# Altium integrated library Linear Technology Power Management Power Control.IntLib: 661 symbols (part 35 of 43)
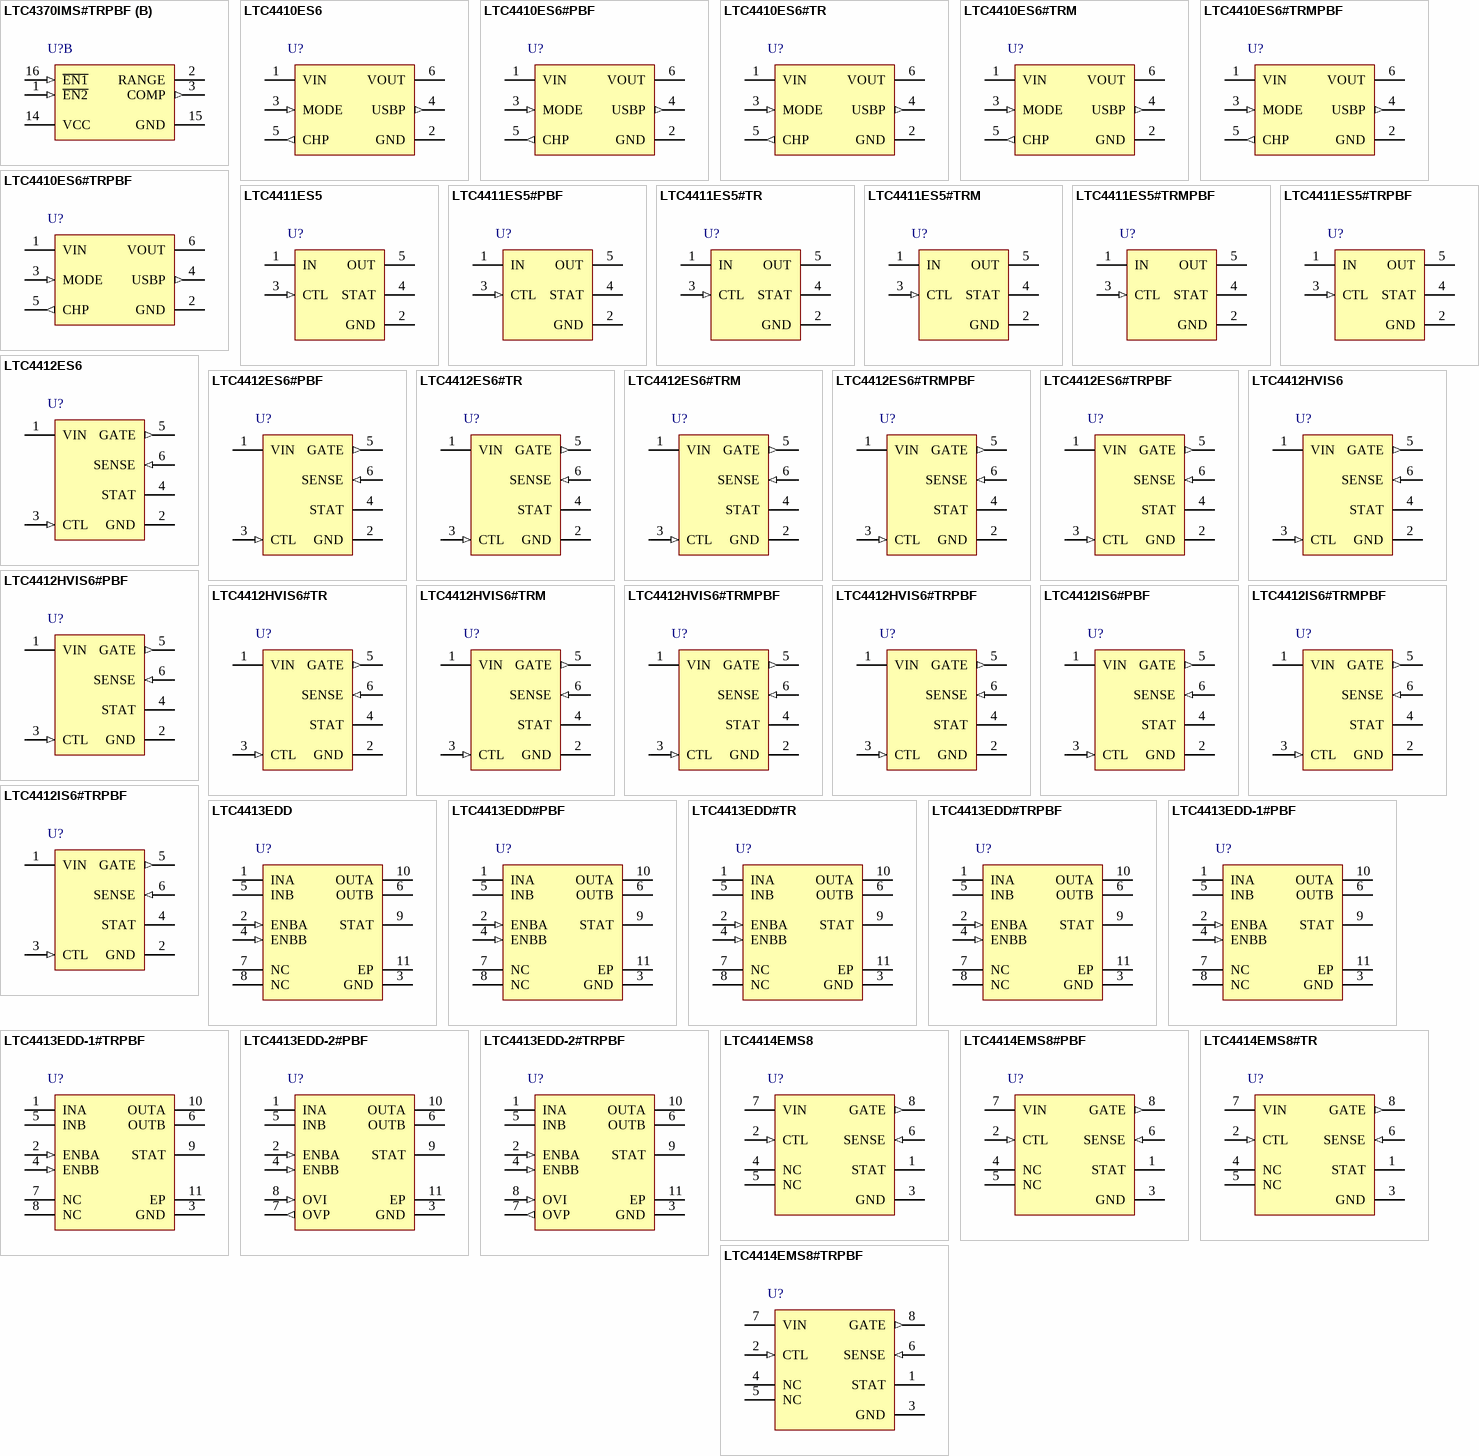
[diagram p53: symbols LTC4370IMS#TRPBF to LTC4414EMS8#TRPBF]

## LTC4412ES6#PBF
designator U?
Low Loss PowerPath(TM) Controller, 2.5 to 28 V Vin, 6-pin SOT23 (S6-6), -40 to 85 degC, Pb-Free; Manufacturer: Linear Technology; PartNumber: LTC4412ES6#PBF; Ideal Diode: Single, External, P-Channel; PackageVersion: Jun-10; PackageReference: S6-6; PackageDescription: 6-Pin Plastic TSOT-23, Body 2.9 x 1.63 mm, Pitch 0.95 mm; Supplier 1: Newark; Supplier Part Number 1: 61M3335; RoHS: TRUE; Mounting Technology: Surface Mount; Code_JEDEC: MO-193; ComponentLink1Description: Manufacturer URL; ComponentLink1URL: http://www.linear.com/; ComponentLink2Description: Datasheet; ComponentLink2URL: http://cds.linear.com/docs/en/datasheet/4412fa.pdf; ComponentLink3Description: Package Specification; ComponentLink3URL: http://cds.linear.com/docs/en/packaging/SOT_6_05-08-1636.pdf
footprint LT-S6-6-TSOT-23_N (SOT23, 6-Leads, Body 2.9x1.75mm, Pitch 0.95mm, IPC Medium Density)
footprint LT-S6-6-TSOT-23_L (SOT23, 6-Leads, Body 2.9x1.75mm, Pitch 0.95mm, IPC High Density)
footprint LT-S6-6-TSOT-23_M (SOT23, 6-Leads, Body 2.9x1.75mm, Pitch 0.95mm, IPC Low Density)
pins: 1 VIN (power) "Primary Input Supply Voltage. Supplies power to the internal circuitry and is one of two voltage sense inputs to the internal analog controller (The other input to the controller is the SENSE pin). This input is usually (See Datasheet)", 2 GND (power) "Ground. Provides a power return for all the internal circuits.", 3 CTL (in) "Digital Control Input. A logical high input (VIH) on this pin forces the gate to source voltage of the primary P-channel MOSFET power switch to a small voltage (VGOFF). This will turn the MOSFET off and no current will flow (See Datasheet)", 4 STAT (oc) "Open-Drain Output Status Pin. When the SENSE pin is pulled above the VIN pin with an auxiliary power source by about 20mV or more, the reverse turn-off threshold (VRTO) is reached. The STAT pin will then go from an open (See Datasheet)", 5 GATE (out) "Primary P-Channel MOSFET Power Switch Gate Drive Pin. This pin is directed by the power controller to maintain a forward regulation voltage (VFR) of 20mV between the VIN and SENSE pins when an auxiliary power source is not (See Datasheet)", 6 SENSE (in) "Power Sense Input Pin. Supplies power to the internal circuitry and is a voltage sense input to the internal analog controller (The other input to the controller is the VIN pin). This input is usually supplied power from an (See Datasheet)"

## LTC4412ES6#TR
designator U?
Low Loss PowerPath(TM) Controller, 2.5 to 28 V Vin, 6-pin SOT23 (S6-6), -40 to 85 degC, Tape and Reel; Manufacturer: Linear Technology; PartNumber: LTC4412ES6#TR; Ideal Diode: Single, External, P-Channel; PackageVersion: Jun-10; PackageReference: S6-6; PackageDescription: 6-Pin Plastic TSOT-23, Body 2.9 x 1.63 mm, Pitch 0.95 mm; Supplier 1: Digi-Key; Supplier Part Number 1: LTC4412ES6TR-ND; Supplier 2: Newark; Supplier Part Number 2: 56M9514; Packing: Tape and Reel; RoHS: FALSE; Mounting Technology: Surface Mount; Code_JEDEC: MO-193; ComponentLink1Description: Manufacturer URL; ComponentLink1URL: http://www.linear.com/; ComponentLink2Description: Datasheet; ComponentLink2URL: http://cds.linear.com/docs/en/datasheet/4412fa.pdf; ComponentLink3Description: Package Specification; ComponentLink3URL: http://cds.linear.com/docs/en/packaging/SOT_6_05-08-1636.pdf
footprint LT-S6-6-TSOT-23_N (SOT23, 6-Leads, Body 2.9x1.75mm, Pitch 0.95mm, IPC Medium Density)
footprint LT-S6-6-TSOT-23_L (SOT23, 6-Leads, Body 2.9x1.75mm, Pitch 0.95mm, IPC High Density)
footprint LT-S6-6-TSOT-23_M (SOT23, 6-Leads, Body 2.9x1.75mm, Pitch 0.95mm, IPC Low Density)
pins: 1 VIN (power) "Primary Input Supply Voltage. Supplies power to the internal circuitry and is one of two voltage sense inputs to the internal analog controller (The other input to the controller is the SENSE pin). This input is usually (See Datasheet)", 2 GND (power) "Ground. Provides a power return for all the internal circuits.", 3 CTL (in) "Digital Control Input. A logical high input (VIH) on this pin forces the gate to source voltage of the primary P-channel MOSFET power switch to a small voltage (VGOFF). This will turn the MOSFET off and no current will flow (See Datasheet)", 4 STAT (oc) "Open-Drain Output Status Pin. When the SENSE pin is pulled above the VIN pin with an auxiliary power source by about 20mV or more, the reverse turn-off threshold (VRTO) is reached. The STAT pin will then go from an open (See Datasheet)", 5 GATE (out) "Primary P-Channel MOSFET Power Switch Gate Drive Pin. This pin is directed by the power controller to maintain a forward regulation voltage (VFR) of 20mV between the VIN and SENSE pins when an auxiliary power source is not (See Datasheet)", 6 SENSE (in) "Power Sense Input Pin. Supplies power to the internal circuitry and is a voltage sense input to the internal analog controller (The other input to the controller is the VIN pin). This input is usually supplied power from an (See Datasheet)"

## LTC4412ES6#TRM
designator U?
Low Loss PowerPath(TM) Controller, 2.5 to 28 V Vin, 6-pin SOT23 (S6-6), -40 to 85 degC, Mini Tape and Reel; Manufacturer: Linear Technology; PartNumber: LTC4412ES6#TRM; Ideal Diode: Single, External, P-Channel; PackageVersion: Jun-10; PackageReference: S6-6; PackageDescription: 6-Pin Plastic TSOT-23, Body 2.9 x 1.63 mm, Pitch 0.95 mm; Supplier 1: Digi-Key; Supplier Part Number 1: LTC4412ES6#TRMTR-ND; Supplier 2: Digi-Key; Supplier Part Number 2: LTC4412ES6#TRMCT-ND; Supplier 3: Digi-Key; Supplier Part Number 3: LTC4412ES6#TRMDKR-ND; Supplier 4: Newark; Supplier Part Number 4: 56M9515; Packing: Mini Tape and Reel; RoHS: FALSE; Mounting Technology: Surface Mount; Code_JEDEC: MO-193; ComponentLink1Description: Manufacturer URL; ComponentLink1URL: http://www.linear.com/; ComponentLink2Description: Datasheet; ComponentLink2URL: http://cds.linear.com/docs/en/datasheet/4412fa.pdf; ComponentLink3Description: Package Specification; ComponentLink3URL: http://cds.linear.com/docs/en/packaging/SOT_6_05-08-1636.pdf
footprint LT-S6-6-TSOT-23_N (SOT23, 6-Leads, Body 2.9x1.75mm, Pitch 0.95mm, IPC Medium Density)
footprint LT-S6-6-TSOT-23_L (SOT23, 6-Leads, Body 2.9x1.75mm, Pitch 0.95mm, IPC High Density)
footprint LT-S6-6-TSOT-23_M (SOT23, 6-Leads, Body 2.9x1.75mm, Pitch 0.95mm, IPC Low Density)
pins: 1 VIN (power) "Primary Input Supply Voltage. Supplies power to the internal circuitry and is one of two voltage sense inputs to the internal analog controller (The other input to the controller is the SENSE pin). This input is usually (See Datasheet)", 2 GND (power) "Ground. Provides a power return for all the internal circuits.", 3 CTL (in) "Digital Control Input. A logical high input (VIH) on this pin forces the gate to source voltage of the primary P-channel MOSFET power switch to a small voltage (VGOFF). This will turn the MOSFET off and no current will flow (See Datasheet)", 4 STAT (oc) "Open-Drain Output Status Pin. When the SENSE pin is pulled above the VIN pin with an auxiliary power source by about 20mV or more, the reverse turn-off threshold (VRTO) is reached. The STAT pin will then go from an open (See Datasheet)", 5 GATE (out) "Primary P-Channel MOSFET Power Switch Gate Drive Pin. This pin is directed by the power controller to maintain a forward regulation voltage (VFR) of 20mV between the VIN and SENSE pins when an auxiliary power source is not (See Datasheet)", 6 SENSE (in) "Power Sense Input Pin. Supplies power to the internal circuitry and is a voltage sense input to the internal analog controller (The other input to the controller is the VIN pin). This input is usually supplied power from an (See Datasheet)"

## LTC4412ES6#TRMPBF
designator U?
Low Loss PowerPath(TM) Controller, 2.5 to 28 V Vin, 6-pin SOT23 (S6-6), -40 to 85 degC, Pb-Free, Mini Tape and Reel; Manufacturer: Linear Technology; PartNumber: LTC4412ES6#TRMPBF; Ideal Diode: Single, External, P-Channel; PackageVersion: Jun-10; PackageReference: S6-6; PackageDescription: 6-Pin Plastic TSOT-23, Body 2.9 x 1.63 mm, Pitch 0.95 mm; Supplier 1: Digi-Key; Supplier Part Number 1: LTC4412ES6#TRMPBFTR-ND; Supplier 2: Digi-Key; Supplier Part Number 2: LTC4412ES6#TRMPBFCT-ND; Supplier 3: Digi-Key; Supplier Part Number 3: LTC4412ES6#TRMPBFDKR-ND; Supplier 4: Farnell; Supplier Part Number 4: 1663917RL; Supplier 5: Farnell; Supplier Part Number 5: 1663917; Supplier 6: Newark; Supplier Part Number 6: 56M9516; Packing: Mini Tape and Reel; RoHS: TRUE; Mounting Technology: Surface Mount; Code_JEDEC: MO-193; ComponentLink1Description: Manufacturer URL; ComponentLink1URL: http://www.linear.com/; ComponentLink2Description: Datasheet; ComponentLink2URL: http://cds.linear.com/docs/en/datasheet/4412fa.pdf; ComponentLink3Description: Package Specification; ComponentLink3URL: http://cds.linear.com/docs/en/packaging/SOT_6_05-08-1636.pdf
footprint LT-S6-6-TSOT-23_N (SOT23, 6-Leads, Body 2.9x1.75mm, Pitch 0.95mm, IPC Medium Density)
footprint LT-S6-6-TSOT-23_L (SOT23, 6-Leads, Body 2.9x1.75mm, Pitch 0.95mm, IPC High Density)
footprint LT-S6-6-TSOT-23_M (SOT23, 6-Leads, Body 2.9x1.75mm, Pitch 0.95mm, IPC Low Density)
pins: 1 VIN (power) "Primary Input Supply Voltage. Supplies power to the internal circuitry and is one of two voltage sense inputs to the internal analog controller (The other input to the controller is the SENSE pin). This input is usually (See Datasheet)", 2 GND (power) "Ground. Provides a power return for all the internal circuits.", 3 CTL (in) "Digital Control Input. A logical high input (VIH) on this pin forces the gate to source voltage of the primary P-channel MOSFET power switch to a small voltage (VGOFF). This will turn the MOSFET off and no current will flow (See Datasheet)", 4 STAT (oc) "Open-Drain Output Status Pin. When the SENSE pin is pulled above the VIN pin with an auxiliary power source by about 20mV or more, the reverse turn-off threshold (VRTO) is reached. The STAT pin will then go from an open (See Datasheet)", 5 GATE (out) "Primary P-Channel MOSFET Power Switch Gate Drive Pin. This pin is directed by the power controller to maintain a forward regulation voltage (VFR) of 20mV between the VIN and SENSE pins when an auxiliary power source is not (See Datasheet)", 6 SENSE (in) "Power Sense Input Pin. Supplies power to the internal circuitry and is a voltage sense input to the internal analog controller (The other input to the controller is the VIN pin). This input is usually supplied power from an (See Datasheet)"

## LTC4412ES6#TRPBF
designator U?
Low Loss PowerPath(TM) Controller, 2.5 to 28 V Vin, 6-pin SOT23 (S6-6), -40 to 85 degC, Pb-Free, Tape and Reel; Manufacturer: Linear Technology; PartNumber: LTC4412ES6#TRPBF; Ideal Diode: Single, External, P-Channel; PackageVersion: Jun-10; PackageReference: S6-6; PackageDescription: 6-Pin Plastic TSOT-23, Body 2.9 x 1.63 mm, Pitch 0.95 mm; Supplier 1: Digi-Key; Supplier Part Number 1: LTC4412ES6#TRPBF-ND; Supplier 2: Newark; Supplier Part Number 2: 56M9517; Packing: Tape and Reel; RoHS: TRUE; Mounting Technology: Surface Mount; Code_JEDEC: MO-193; ComponentLink1Description: Manufacturer URL; ComponentLink1URL: http://www.linear.com/; ComponentLink2Description: Datasheet; ComponentLink2URL: http://cds.linear.com/docs/en/datasheet/4412fa.pdf; ComponentLink3Description: Package Specification; ComponentLink3URL: http://cds.linear.com/docs/en/packaging/SOT_6_05-08-1636.pdf
footprint LT-S6-6-TSOT-23_N (SOT23, 6-Leads, Body 2.9x1.75mm, Pitch 0.95mm, IPC Medium Density)
footprint LT-S6-6-TSOT-23_L (SOT23, 6-Leads, Body 2.9x1.75mm, Pitch 0.95mm, IPC High Density)
footprint LT-S6-6-TSOT-23_M (SOT23, 6-Leads, Body 2.9x1.75mm, Pitch 0.95mm, IPC Low Density)
pins: 1 VIN (power) "Primary Input Supply Voltage. Supplies power to the internal circuitry and is one of two voltage sense inputs to the internal analog controller (The other input to the controller is the SENSE pin). This input is usually (See Datasheet)", 2 GND (power) "Ground. Provides a power return for all the internal circuits.", 3 CTL (in) "Digital Control Input. A logical high input (VIH) on this pin forces the gate to source voltage of the primary P-channel MOSFET power switch to a small voltage (VGOFF). This will turn the MOSFET off and no current will flow (See Datasheet)", 4 STAT (oc) "Open-Drain Output Status Pin. When the SENSE pin is pulled above the VIN pin with an auxiliary power source by about 20mV or more, the reverse turn-off threshold (VRTO) is reached. The STAT pin will then go from an open (See Datasheet)", 5 GATE (out) "Primary P-Channel MOSFET Power Switch Gate Drive Pin. This pin is directed by the power controller to maintain a forward regulation voltage (VFR) of 20mV between the VIN and SENSE pins when an auxiliary power source is not (See Datasheet)", 6 SENSE (in) "Power Sense Input Pin. Supplies power to the internal circuitry and is a voltage sense input to the internal analog controller (The other input to the controller is the VIN pin). This input is usually supplied power from an (See Datasheet)"

## LTC4412HVIS6
designator U?
Low Loss PowerPath(TM) Controller, 2.5 to 36 V Vin, 6-pin SOT23 (S6-6), -40 to 125 degC; Manufacturer: Linear Technology; PartNumber: LTC4412HVIS6; Ideal Diode: Single, External, P-Channel; PackageVersion: Jun-10; PackageReference: S6-6; PackageDescription: 6-Pin Plastic TSOT-23, Body 2.9 x 1.63 mm, Pitch 0.95 mm; RoHS: FALSE; Mounting Technology: Surface Mount; Code_JEDEC: MO-193; ComponentLink1Description: Manufacturer URL; ComponentLink1URL: http://www.linear.com/; ComponentLink2Description: Datasheet; ComponentLink2URL: http://cds.linear.com/docs/en/datasheet/4412hvfs.pdf; ComponentLink3Description: Package Specification; ComponentLink3URL: http://cds.linear.com/docs/en/packaging/SOT_6_05-08-1636.pdf
footprint LT-S6-6-TSOT-23_N (SOT23, 6-Leads, Body 2.9x1.75mm, Pitch 0.95mm, IPC Medium Density)
footprint LT-S6-6-TSOT-23_L (SOT23, 6-Leads, Body 2.9x1.75mm, Pitch 0.95mm, IPC High Density)
footprint LT-S6-6-TSOT-23_M (SOT23, 6-Leads, Body 2.9x1.75mm, Pitch 0.95mm, IPC Low Density)
pins: 1 VIN (power) "Primary Input Supply Voltage. Supplies power to the internal circuitry and is one of two voltage sense inputs to the internal analog controller (The other input to the controller is the SENSE pin). This input is usually (See Datasheet)", 2 GND (power) "Ground. Provides a power return for all the internal circuits.", 3 CTL (in) "Digital Control Input. A logical high input (VIH) on this pin forces the gate to source voltage of the primary P-channel MOSFET power switch to a small voltage (VGOFF). This will turn the MOSFET off and no current will flow (See Datasheet)", 4 STAT (oc) "Open-Drain Output Status Pin. When the SENSE pin is pulled above the VIN pin with an auxiliary power source by about 20mV or more, the reverse turn-off threshold (VRTO) is reached. The STAT pin will then go from an open (See Datasheet)", 5 GATE (out) "Primary P-Channel MOSFET Power Switch Gate Drive Pin. This pin is directed by the power controller to maintain a forward regulation voltage (VFR) of 20mV between the VIN and SENSE pins when an auxiliary power source is not (See Datasheet)", 6 SENSE (in) "Power Sense Input Pin. Supplies power to the internal circuitry and is a voltage sense input to the internal analog controller (The other input to the controller is the VIN pin). This input is usually supplied power from an (See Datasheet)"

## LTC4412HVIS6#PBF
designator U?
Low Loss PowerPath(TM) Controller, 2.5 to 36 V Vin, 6-pin SOT23 (S6-6), -40 to 125 degC, Pb-Free; Manufacturer: Linear Technology; PartNumber: LTC4412HVIS6#PBF; Ideal Diode: Single, External, P-Channel; PackageVersion: Jun-10; PackageReference: S6-6; PackageDescription: 6-Pin Plastic TSOT-23, Body 2.9 x 1.63 mm, Pitch 0.95 mm; Supplier 1: Farnell; Supplier Part Number 1: 2295297; Supplier 2: Newark; Supplier Part Number 2: 60R3298; RoHS: TRUE; Mounting Technology: Surface Mount; Code_JEDEC: MO-193; ComponentLink1Description: Manufacturer URL; ComponentLink1URL: http://www.linear.com/; ComponentLink2Description: Datasheet; ComponentLink2URL: http://cds.linear.com/docs/en/datasheet/4412hvfs.pdf; ComponentLink3Description: Package Specification; ComponentLink3URL: http://cds.linear.com/docs/en/packaging/SOT_6_05-08-1636.pdf
footprint LT-S6-6-TSOT-23_N (SOT23, 6-Leads, Body 2.9x1.75mm, Pitch 0.95mm, IPC Medium Density)
footprint LT-S6-6-TSOT-23_L (SOT23, 6-Leads, Body 2.9x1.75mm, Pitch 0.95mm, IPC High Density)
footprint LT-S6-6-TSOT-23_M (SOT23, 6-Leads, Body 2.9x1.75mm, Pitch 0.95mm, IPC Low Density)
pins: 1 VIN (power) "Primary Input Supply Voltage. Supplies power to the internal circuitry and is one of two voltage sense inputs to the internal analog controller (The other input to the controller is the SENSE pin). This input is usually (See Datasheet)", 2 GND (power) "Ground. Provides a power return for all the internal circuits.", 3 CTL (in) "Digital Control Input. A logical high input (VIH) on this pin forces the gate to source voltage of the primary P-channel MOSFET power switch to a small voltage (VGOFF). This will turn the MOSFET off and no current will flow (See Datasheet)", 4 STAT (oc) "Open-Drain Output Status Pin. When the SENSE pin is pulled above the VIN pin with an auxiliary power source by about 20mV or more, the reverse turn-off threshold (VRTO) is reached. The STAT pin will then go from an open (See Datasheet)", 5 GATE (out) "Primary P-Channel MOSFET Power Switch Gate Drive Pin. This pin is directed by the power controller to maintain a forward regulation voltage (VFR) of 20mV between the VIN and SENSE pins when an auxiliary power source is not (See Datasheet)", 6 SENSE (in) "Power Sense Input Pin. Supplies power to the internal circuitry and is a voltage sense input to the internal analog controller (The other input to the controller is the VIN pin). This input is usually supplied power from an (See Datasheet)"

## LTC4412HVIS6#TR
designator U?
Low Loss PowerPath(TM) Controller, 2.5 to 36 V Vin, 6-pin SOT23 (S6-6), -40 to 125 degC, Tape and Reel; Manufacturer: Linear Technology; PartNumber: LTC4412HVIS6#TR; Ideal Diode: Single, External, P-Channel; PackageVersion: Jun-10; PackageReference: S6-6; PackageDescription: 6-Pin Plastic TSOT-23, Body 2.9 x 1.63 mm, Pitch 0.95 mm; Supplier 1: Digi-Key; Supplier Part Number 1: LTC4412HVIS6#TR-ND; Supplier 2: Newark; Supplier Part Number 2: 56M9518; Packing: Tape and Reel; RoHS: FALSE; Mounting Technology: Surface Mount; Code_JEDEC: MO-193; ComponentLink1Description: Manufacturer URL; ComponentLink1URL: http://www.linear.com/; ComponentLink2Description: Datasheet; ComponentLink2URL: http://cds.linear.com/docs/en/datasheet/4412hvfs.pdf; ComponentLink3Description: Package Specification; ComponentLink3URL: http://cds.linear.com/docs/en/packaging/SOT_6_05-08-1636.pdf
footprint LT-S6-6-TSOT-23_N (SOT23, 6-Leads, Body 2.9x1.75mm, Pitch 0.95mm, IPC Medium Density)
footprint LT-S6-6-TSOT-23_L (SOT23, 6-Leads, Body 2.9x1.75mm, Pitch 0.95mm, IPC High Density)
footprint LT-S6-6-TSOT-23_M (SOT23, 6-Leads, Body 2.9x1.75mm, Pitch 0.95mm, IPC Low Density)
pins: 1 VIN (power) "Primary Input Supply Voltage. Supplies power to the internal circuitry and is one of two voltage sense inputs to the internal analog controller (The other input to the controller is the SENSE pin). This input is usually (See Datasheet)", 2 GND (power) "Ground. Provides a power return for all the internal circuits.", 3 CTL (in) "Digital Control Input. A logical high input (VIH) on this pin forces the gate to source voltage of the primary P-channel MOSFET power switch to a small voltage (VGOFF). This will turn the MOSFET off and no current will flow (See Datasheet)", 4 STAT (oc) "Open-Drain Output Status Pin. When the SENSE pin is pulled above the VIN pin with an auxiliary power source by about 20mV or more, the reverse turn-off threshold (VRTO) is reached. The STAT pin will then go from an open (See Datasheet)", 5 GATE (out) "Primary P-Channel MOSFET Power Switch Gate Drive Pin. This pin is directed by the power controller to maintain a forward regulation voltage (VFR) of 20mV between the VIN and SENSE pins when an auxiliary power source is not (See Datasheet)", 6 SENSE (in) "Power Sense Input Pin. Supplies power to the internal circuitry and is a voltage sense input to the internal analog controller (The other input to the controller is the VIN pin). This input is usually supplied power from an (See Datasheet)"

## LTC4412HVIS6#TRM
designator U?
Low Loss PowerPath(TM) Controller, 2.5 to 36 V Vin, 6-pin SOT23 (S6-6), -40 to 125 degC, Mini Tape and Reel; Manufacturer: Linear Technology; PartNumber: LTC4412HVIS6#TRM; Ideal Diode: Single, External, P-Channel; PackageVersion: Jun-10; PackageReference: S6-6; PackageDescription: 6-Pin Plastic TSOT-23, Body 2.9 x 1.63 mm, Pitch 0.95 mm; Supplier 1: Digi-Key; Supplier Part Number 1: LTC4412HVIS6#TRM-ND; Supplier 2: Newark; Supplier Part Number 2: 56M9519; Packing: Mini Tape and Reel; RoHS: FALSE; Mounting Technology: Surface Mount; Code_JEDEC: MO-193; ComponentLink1Description: Manufacturer URL; ComponentLink1URL: http://www.linear.com/; ComponentLink2Description: Datasheet; ComponentLink2URL: http://cds.linear.com/docs/en/datasheet/4412hvfs.pdf; ComponentLink3Description: Package Specification; ComponentLink3URL: http://cds.linear.com/docs/en/packaging/SOT_6_05-08-1636.pdf
footprint LT-S6-6-TSOT-23_N (SOT23, 6-Leads, Body 2.9x1.75mm, Pitch 0.95mm, IPC Medium Density)
footprint LT-S6-6-TSOT-23_L (SOT23, 6-Leads, Body 2.9x1.75mm, Pitch 0.95mm, IPC High Density)
footprint LT-S6-6-TSOT-23_M (SOT23, 6-Leads, Body 2.9x1.75mm, Pitch 0.95mm, IPC Low Density)
pins: 1 VIN (power) "Primary Input Supply Voltage. Supplies power to the internal circuitry and is one of two voltage sense inputs to the internal analog controller (The other input to the controller is the SENSE pin). This input is usually (See Datasheet)", 2 GND (power) "Ground. Provides a power return for all the internal circuits.", 3 CTL (in) "Digital Control Input. A logical high input (VIH) on this pin forces the gate to source voltage of the primary P-channel MOSFET power switch to a small voltage (VGOFF). This will turn the MOSFET off and no current will flow (See Datasheet)", 4 STAT (oc) "Open-Drain Output Status Pin. When the SENSE pin is pulled above the VIN pin with an auxiliary power source by about 20mV or more, the reverse turn-off threshold (VRTO) is reached. The STAT pin will then go from an open (See Datasheet)", 5 GATE (out) "Primary P-Channel MOSFET Power Switch Gate Drive Pin. This pin is directed by the power controller to maintain a forward regulation voltage (VFR) of 20mV between the VIN and SENSE pins when an auxiliary power source is not (See Datasheet)", 6 SENSE (in) "Power Sense Input Pin. Supplies power to the internal circuitry and is a voltage sense input to the internal analog controller (The other input to the controller is the VIN pin). This input is usually supplied power from an (See Datasheet)"

## LTC4412HVIS6#TRMPBF
designator U?
Low Loss PowerPath(TM) Controller, 2.5 to 36 V Vin, 6-pin SOT23 (S6-6), -40 to 125 degC, Pb-Free, Mini Tape and Reel; Manufacturer: Linear Technology; PartNumber: LTC4412HVIS6#TRMPBF; Ideal Diode: Single, External, P-Channel; PackageVersion: Jun-10; PackageReference: S6-6; PackageDescription: 6-Pin Plastic TSOT-23, Body 2.9 x 1.63 mm, Pitch 0.95 mm; Supplier 1: Digi-Key; Supplier Part Number 1: LTC4412HVIS6#TRMPBFTR-ND; Supplier 2: Digi-Key; Supplier Part Number 2: LTC4412HVIS6#TRMPBFCT-ND; Supplier 3: Digi-Key; Supplier Part Number 3: LTC4412HVIS6#TRMPBFDKR-ND; Supplier 4: Newark; Supplier Part Number 4: 56M9520; Packing: Mini Tape and Reel; RoHS: TRUE; Mounting Technology: Surface Mount; Code_JEDEC: MO-193; ComponentLink1Description: Manufacturer URL; ComponentLink1URL: http://www.linear.com/; ComponentLink2Description: Datasheet; ComponentLink2URL: http://cds.linear.com/docs/en/datasheet/4412hvfs.pdf; ComponentLink3Description: Package Specification; ComponentLink3URL: http://cds.linear.com/docs/en/packaging/SOT_6_05-08-1636.pdf
footprint LT-S6-6-TSOT-23_N (SOT23, 6-Leads, Body 2.9x1.75mm, Pitch 0.95mm, IPC Medium Density)
footprint LT-S6-6-TSOT-23_L (SOT23, 6-Leads, Body 2.9x1.75mm, Pitch 0.95mm, IPC High Density)
footprint LT-S6-6-TSOT-23_M (SOT23, 6-Leads, Body 2.9x1.75mm, Pitch 0.95mm, IPC Low Density)
pins: 1 VIN (power) "Primary Input Supply Voltage. Supplies power to the internal circuitry and is one of two voltage sense inputs to the internal analog controller (The other input to the controller is the SENSE pin). This input is usually (See Datasheet)", 2 GND (power) "Ground. Provides a power return for all the internal circuits.", 3 CTL (in) "Digital Control Input. A logical high input (VIH) on this pin forces the gate to source voltage of the primary P-channel MOSFET power switch to a small voltage (VGOFF). This will turn the MOSFET off and no current will flow (See Datasheet)", 4 STAT (oc) "Open-Drain Output Status Pin. When the SENSE pin is pulled above the VIN pin with an auxiliary power source by about 20mV or more, the reverse turn-off threshold (VRTO) is reached. The STAT pin will then go from an open (See Datasheet)", 5 GATE (out) "Primary P-Channel MOSFET Power Switch Gate Drive Pin. This pin is directed by the power controller to maintain a forward regulation voltage (VFR) of 20mV between the VIN and SENSE pins when an auxiliary power source is not (See Datasheet)", 6 SENSE (in) "Power Sense Input Pin. Supplies power to the internal circuitry and is a voltage sense input to the internal analog controller (The other input to the controller is the VIN pin). This input is usually supplied power from an (See Datasheet)"

## LTC4412HVIS6#TRPBF
designator U?
Low Loss PowerPath(TM) Controller, 2.5 to 36 V Vin, 6-pin SOT23 (S6-6), -40 to 125 degC, Pb-Free, Tape and Reel; Manufacturer: Linear Technology; PartNumber: LTC4412HVIS6#TRPBF; Ideal Diode: Single, External, P-Channel; PackageVersion: Jun-10; PackageReference: S6-6; PackageDescription: 6-Pin Plastic TSOT-23, Body 2.9 x 1.63 mm, Pitch 0.95 mm; Supplier 1: Digi-Key; Supplier Part Number 1: LTC4412HVIS6#TRPBF-ND; Supplier 2: Newark; Supplier Part Number 2: 56M9521; Packing: Tape and Reel; RoHS: TRUE; Mounting Technology: Surface Mount; Code_JEDEC: MO-193; ComponentLink1Description: Manufacturer URL; ComponentLink1URL: http://www.linear.com/; ComponentLink2Description: Datasheet; ComponentLink2URL: http://cds.linear.com/docs/en/datasheet/4412hvfs.pdf; ComponentLink3Description: Package Specification; ComponentLink3URL: http://cds.linear.com/docs/en/packaging/SOT_6_05-08-1636.pdf
footprint LT-S6-6-TSOT-23_N (SOT23, 6-Leads, Body 2.9x1.75mm, Pitch 0.95mm, IPC Medium Density)
footprint LT-S6-6-TSOT-23_L (SOT23, 6-Leads, Body 2.9x1.75mm, Pitch 0.95mm, IPC High Density)
footprint LT-S6-6-TSOT-23_M (SOT23, 6-Leads, Body 2.9x1.75mm, Pitch 0.95mm, IPC Low Density)
pins: 1 VIN (power) "Primary Input Supply Voltage. Supplies power to the internal circuitry and is one of two voltage sense inputs to the internal analog controller (The other input to the controller is the SENSE pin). This input is usually (See Datasheet)", 2 GND (power) "Ground. Provides a power return for all the internal circuits.", 3 CTL (in) "Digital Control Input. A logical high input (VIH) on this pin forces the gate to source voltage of the primary P-channel MOSFET power switch to a small voltage (VGOFF). This will turn the MOSFET off and no current will flow (See Datasheet)", 4 STAT (oc) "Open-Drain Output Status Pin. When the SENSE pin is pulled above the VIN pin with an auxiliary power source by about 20mV or more, the reverse turn-off threshold (VRTO) is reached. The STAT pin will then go from an open (See Datasheet)", 5 GATE (out) "Primary P-Channel MOSFET Power Switch Gate Drive Pin. This pin is directed by the power controller to maintain a forward regulation voltage (VFR) of 20mV between the VIN and SENSE pins when an auxiliary power source is not (See Datasheet)", 6 SENSE (in) "Power Sense Input Pin. Supplies power to the internal circuitry and is a voltage sense input to the internal analog controller (The other input to the controller is the VIN pin). This input is usually supplied power from an (See Datasheet)"

## LTC4412IS6#PBF
designator U?
Low Loss PowerPath(TM) Controller, 2.5 to 28 V Vin, 6-pin SOT23 (S6-6), -40 to 85 degC, Pb-Free; Manufacturer: Linear Technology; PartNumber: LTC4412IS6#PBF; Ideal Diode: Single, External, P-Channel; PackageVersion: Jun-10; PackageReference: S6-6; PackageDescription: 6-Pin Plastic TSOT-23, Body 2.9 x 1.63 mm, Pitch 0.95 mm; Supplier 1: Farnell; Supplier Part Number 1: 1858719; Supplier 2: Newark; Supplier Part Number 2: 69R7373; RoHS: TRUE; Mounting Technology: Surface Mount; Code_JEDEC: MO-193; ComponentLink1Description: Manufacturer URL; ComponentLink1URL: http://www.linear.com/; ComponentLink2Description: Datasheet; ComponentLink2URL: http://cds.linear.com/docs/en/datasheet/4412fa.pdf; ComponentLink3Description: Package Specification; ComponentLink3URL: http://cds.linear.com/docs/en/packaging/SOT_6_05-08-1636.pdf
footprint LT-S6-6-TSOT-23_N (SOT23, 6-Leads, Body 2.9x1.75mm, Pitch 0.95mm, IPC Medium Density)
footprint LT-S6-6-TSOT-23_L (SOT23, 6-Leads, Body 2.9x1.75mm, Pitch 0.95mm, IPC High Density)
footprint LT-S6-6-TSOT-23_M (SOT23, 6-Leads, Body 2.9x1.75mm, Pitch 0.95mm, IPC Low Density)
pins: 1 VIN (power) "Primary Input Supply Voltage. Supplies power to the internal circuitry and is one of two voltage sense inputs to the internal analog controller (The other input to the controller is the SENSE pin). This input is usually (See Datasheet)", 2 GND (power) "Ground. Provides a power return for all the internal circuits.", 3 CTL (in) "Digital Control Input. A logical high input (VIH) on this pin forces the gate to source voltage of the primary P-channel MOSFET power switch to a small voltage (VGOFF). This will turn the MOSFET off and no current will flow (See Datasheet)", 4 STAT (oc) "Open-Drain Output Status Pin. When the SENSE pin is pulled above the VIN pin with an auxiliary power source by about 20mV or more, the reverse turn-off threshold (VRTO) is reached. The STAT pin will then go from an open (See Datasheet)", 5 GATE (out) "Primary P-Channel MOSFET Power Switch Gate Drive Pin. This pin is directed by the power controller to maintain a forward regulation voltage (VFR) of 20mV between the VIN and SENSE pins when an auxiliary power source is not (See Datasheet)", 6 SENSE (in) "Power Sense Input Pin. Supplies power to the internal circuitry and is a voltage sense input to the internal analog controller (The other input to the controller is the VIN pin). This input is usually supplied power from an (See Datasheet)"

## LTC4412IS6#TRMPBF
designator U?
Low Loss PowerPath(TM) Controller, 2.5 to 28 V Vin, 6-pin SOT23 (S6-6), -40 to 85 degC, Pb-Free, Mini Tape and Reel; Manufacturer: Linear Technology; PartNumber: LTC4412IS6#TRMPBF; Ideal Diode: Single, External, P-Channel; PackageVersion: Jun-10; PackageReference: S6-6; PackageDescription: 6-Pin Plastic TSOT-23, Body 2.9 x 1.63 mm, Pitch 0.95 mm; Supplier 1: Digi-Key; Supplier Part Number 1: LTC4412IS6#TRMPBFTR-ND; Supplier 2: Digi-Key; Supplier Part Number 2: LTC4412IS6#TRMPBFCT-ND; Supplier 3: Digi-Key; Supplier Part Number 3: LTC4412IS6#TRMPBFDKR-ND; Supplier 4: Farnell; Supplier Part Number 4: 1663918; Supplier 5: Farnell; Supplier Part Number 5: 1663918RL; Supplier 6: Newark; Supplier Part Number 6: 56M9522; Packing: Mini Tape and Reel; RoHS: TRUE; Mounting Technology: Surface Mount; Code_JEDEC: MO-193; ComponentLink1Description: Manufacturer URL; ComponentLink1URL: http://www.linear.com/; ComponentLink2Description: Datasheet; ComponentLink2URL: http://cds.linear.com/docs/en/datasheet/4412fa.pdf; ComponentLink3Description: Package Specification; ComponentLink3URL: http://cds.linear.com/docs/en/packaging/SOT_6_05-08-1636.pdf
footprint LT-S6-6-TSOT-23_N (SOT23, 6-Leads, Body 2.9x1.75mm, Pitch 0.95mm, IPC Medium Density)
footprint LT-S6-6-TSOT-23_L (SOT23, 6-Leads, Body 2.9x1.75mm, Pitch 0.95mm, IPC High Density)
footprint LT-S6-6-TSOT-23_M (SOT23, 6-Leads, Body 2.9x1.75mm, Pitch 0.95mm, IPC Low Density)
pins: 1 VIN (power) "Primary Input Supply Voltage. Supplies power to the internal circuitry and is one of two voltage sense inputs to the internal analog controller (The other input to the controller is the SENSE pin). This input is usually (See Datasheet)", 2 GND (power) "Ground. Provides a power return for all the internal circuits.", 3 CTL (in) "Digital Control Input. A logical high input (VIH) on this pin forces the gate to source voltage of the primary P-channel MOSFET power switch to a small voltage (VGOFF). This will turn the MOSFET off and no current will flow (See Datasheet)", 4 STAT (oc) "Open-Drain Output Status Pin. When the SENSE pin is pulled above the VIN pin with an auxiliary power source by about 20mV or more, the reverse turn-off threshold (VRTO) is reached. The STAT pin will then go from an open (See Datasheet)", 5 GATE (out) "Primary P-Channel MOSFET Power Switch Gate Drive Pin. This pin is directed by the power controller to maintain a forward regulation voltage (VFR) of 20mV between the VIN and SENSE pins when an auxiliary power source is not (See Datasheet)", 6 SENSE (in) "Power Sense Input Pin. Supplies power to the internal circuitry and is a voltage sense input to the internal analog controller (The other input to the controller is the VIN pin). This input is usually supplied power from an (See Datasheet)"

## LTC4412IS6#TRPBF
designator U?
Low Loss PowerPath(TM) Controller, 2.5 to 28 V Vin, 6-pin SOT23 (S6-6), -40 to 85 degC, Pb-Free, Tape and Reel; Manufacturer: Linear Technology; PartNumber: LTC4412IS6#TRPBF; Ideal Diode: Single, External, P-Channel; PackageVersion: Jun-10; PackageReference: S6-6; PackageDescription: 6-Pin Plastic TSOT-23, Body 2.9 x 1.63 mm, Pitch 0.95 mm; Supplier 1: Digi-Key; Supplier Part Number 1: LTC4412IS6#TRPBF-ND; Supplier 2: Newark; Supplier Part Number 2: 56M9523; Packing: Tape and Reel; RoHS: TRUE; Mounting Technology: Surface Mount; Code_JEDEC: MO-193; ComponentLink1Description: Manufacturer URL; ComponentLink1URL: http://www.linear.com/; ComponentLink2Description: Datasheet; ComponentLink2URL: http://cds.linear.com/docs/en/datasheet/4412fa.pdf; ComponentLink3Description: Package Specification; ComponentLink3URL: http://cds.linear.com/docs/en/packaging/SOT_6_05-08-1636.pdf
footprint LT-S6-6-TSOT-23_N (SOT23, 6-Leads, Body 2.9x1.75mm, Pitch 0.95mm, IPC Medium Density)
footprint LT-S6-6-TSOT-23_L (SOT23, 6-Leads, Body 2.9x1.75mm, Pitch 0.95mm, IPC High Density)
footprint LT-S6-6-TSOT-23_M (SOT23, 6-Leads, Body 2.9x1.75mm, Pitch 0.95mm, IPC Low Density)
pins: 1 VIN (power) "Primary Input Supply Voltage. Supplies power to the internal circuitry and is one of two voltage sense inputs to the internal analog controller (The other input to the controller is the SENSE pin). This input is usually (See Datasheet)", 2 GND (power) "Ground. Provides a power return for all the internal circuits.", 3 CTL (in) "Digital Control Input. A logical high input (VIH) on this pin forces the gate to source voltage of the primary P-channel MOSFET power switch to a small voltage (VGOFF). This will turn the MOSFET off and no current will flow (See Datasheet)", 4 STAT (oc) "Open-Drain Output Status Pin. When the SENSE pin is pulled above the VIN pin with an auxiliary power source by about 20mV or more, the reverse turn-off threshold (VRTO) is reached. The STAT pin will then go from an open (See Datasheet)", 5 GATE (out) "Primary P-Channel MOSFET Power Switch Gate Drive Pin. This pin is directed by the power controller to maintain a forward regulation voltage (VFR) of 20mV between the VIN and SENSE pins when an auxiliary power source is not (See Datasheet)", 6 SENSE (in) "Power Sense Input Pin. Supplies power to the internal circuitry and is a voltage sense input to the internal analog controller (The other input to the controller is the VIN pin). This input is usually supplied power from an (See Datasheet)"

## LTC4413EDD
designator U?
Dual 2.6 A, Ideal Diode, 2.5 to 5.5 V Vin, 10-pin SON (DD-10), -40 to 85 degC; Manufacturer: Linear Technology; PartNumber: LTC4413EDD; Ideal Diode: Dual, Internal, P-Channel; DatasheetVersion: Rev. C; PackageVersion: Rev. C, 06/2010; PackageReference: DD-10; PackageDescription: 10-Pin Plastic DFN, Body 3 x 3 mm, Pitch 0.5 mm; Supplier 1: Newark; Supplier Part Number 1: 56M9524; RoHS: FALSE; Mounting Technology: Surface Mount; Code_JEDEC: MO-229; ComponentLink1Description: Manufacturer URL; ComponentLink1URL: http://www.linear.com/; ComponentLink2Description: Datasheet; ComponentLink2URL: http://cds.linear.com/docs/en/datasheet/4413fc.pdf; ComponentLink3Description: Package Specification; ComponentLink3URL: http://cds.linear.com/docs/en/packaging/DFN_10_05-08-1699.pdf
footprint LT-DD-10_V (SON, 10-Leads, Body 3x3mm, Pitch 0.5mm, Thermal Pad 2.38x1.65mm)
pins: 1 INA (power), 2 ENBA (in), 3 GND (power), 4 ENBB (in), 5 INB (power), 6 OUTB (power), 7 NC "No Connection.", 8 NC "No Connection.", 9 STAT (oc), 10 OUTA (power), 11 EP (power)

## LTC4413EDD#PBF
designator U?
Dual 2.6 A, Ideal Diode, 2.5 to 5.5 V Vin, 10-pin SON (DD-10), -40 to 85 degC, Pb-Free; Manufacturer: Linear Technology; PartNumber: LTC4413EDD#PBF; Ideal Diode: Dual, Internal, P-Channel; DatasheetVersion: Rev. C; PackageVersion: Rev. C, 06/2010; PackageReference: DD-10; PackageDescription: 10-Pin Plastic DFN, Body 3 x 3 mm, Pitch 0.5 mm; Supplier 1: Digi-Key; Supplier Part Number 1: LTC4413EDD#PBF-ND; Supplier 2: Farnell; Supplier Part Number 2: 1663736; Supplier 3: Newark; Supplier Part Number 3: 56M9529; RoHS: TRUE; Mounting Technology: Surface Mount; Code_JEDEC: MO-229; ComponentLink1Description: Manufacturer URL; ComponentLink1URL: http://www.linear.com/; ComponentLink2Description: Datasheet; ComponentLink2URL: http://cds.linear.com/docs/en/datasheet/4413fc.pdf; ComponentLink3Description: Package Specification; ComponentLink3URL: http://cds.linear.com/docs/en/packaging/DFN_10_05-08-1699.pdf
footprint LT-DD-10_V (SON, 10-Leads, Body 3x3mm, Pitch 0.5mm, Thermal Pad 2.38x1.65mm)
pins: 1 INA (power), 2 ENBA (in), 3 GND (power), 4 ENBB (in), 5 INB (power), 6 OUTB (power), 7 NC "No Connection.", 8 NC "No Connection.", 9 STAT (oc), 10 OUTA (power), 11 EP (power)

## LTC4413EDD#TR
designator U?
Dual 2.6 A, Ideal Diode, 2.5 to 5.5 V Vin, 10-pin SON (DD-10), -40 to 85 degC, Tape and Reel; Manufacturer: Linear Technology; PartNumber: LTC4413EDD#TR; Ideal Diode: Dual, Internal, P-Channel; DatasheetVersion: Rev. C; PackageVersion: Rev. C, 06/2010; PackageReference: DD-10; PackageDescription: 10-Pin Plastic DFN, Body 3 x 3 mm, Pitch 0.5 mm; Supplier 1: Newark; Supplier Part Number 1: 56M9530; Packing: Tape and Reel; RoHS: FALSE; Mounting Technology: Surface Mount; Code_JEDEC: MO-229; ComponentLink1Description: Manufacturer URL; ComponentLink1URL: http://www.linear.com/; ComponentLink2Description: Datasheet; ComponentLink2URL: http://cds.linear.com/docs/en/datasheet/4413fc.pdf; ComponentLink3Description: Package Specification; ComponentLink3URL: http://cds.linear.com/docs/en/packaging/DFN_10_05-08-1699.pdf
footprint LT-DD-10_V (SON, 10-Leads, Body 3x3mm, Pitch 0.5mm, Thermal Pad 2.38x1.65mm)
pins: 1 INA (power), 2 ENBA (in), 3 GND (power), 4 ENBB (in), 5 INB (power), 6 OUTB (power), 7 NC "No Connection.", 8 NC "No Connection.", 9 STAT (oc), 10 OUTA (power), 11 EP (power)

## LTC4413EDD#TRPBF
designator U?
Dual 2.6 A, Ideal Diode, 2.5 to 5.5 V Vin, 10-pin SON (DD-10), -40 to 85 degC, Pb-Free, Tape and Reel; Manufacturer: Linear Technology; PartNumber: LTC4413EDD#TRPBF; Ideal Diode: Dual, Internal, P-Channel; DatasheetVersion: Rev. C; PackageVersion: Rev. C, 06/2010; PackageReference: DD-10; PackageDescription: 10-Pin Plastic DFN, Body 3 x 3 mm, Pitch 0.5 mm; Supplier 1: Digi-Key; Supplier Part Number 1: LTC4413EDD#TRPBFTR-ND; Supplier 2: Digi-Key; Supplier Part Number 2: LTC4413EDD#TRPBFCT-ND; Supplier 3: Digi-Key; Supplier Part Number 3: LTC4413EDD#TRPBFDKR-ND; Supplier 4: Newark; Supplier Part Number 4: 56M9531; Packing: Tape and Reel; RoHS: TRUE; Mounting Technology: Surface Mount; Code_JEDEC: MO-229; ComponentLink1Description: Manufacturer URL; ComponentLink1URL: http://www.linear.com/; ComponentLink2Description: Datasheet; ComponentLink2URL: http://cds.linear.com/docs/en/datasheet/4413fc.pdf; ComponentLink3Description: Package Specification; ComponentLink3URL: http://cds.linear.com/docs/en/packaging/DFN_10_05-08-1699.pdf
footprint LT-DD-10_V (SON, 10-Leads, Body 3x3mm, Pitch 0.5mm, Thermal Pad 2.38x1.65mm)
pins: 1 INA (power), 2 ENBA (in), 3 GND (power), 4 ENBB (in), 5 INB (power), 6 OUTB (power), 7 NC "No Connection.", 8 NC "No Connection.", 9 STAT (oc), 10 OUTA (power), 11 EP (power)

## LTC4413EDD-1#PBF
designator U?
Dual 2.6 A, Fast Ideal Diode, 2.6 to 5.5 V Vin, 10-pin SON (DD-10), -40 to 85 degC, Pb-Free; Manufacturer: Linear Technology; PartNumber: LTC4413EDD-1#PBF; Ideal Diode: Dual, Internal, P-Channel; DatasheetVersion: Rev. D; PackageVersion: Rev. C, 06/2010; PackageReference: DD-10; PackageDescription: 10-Pin Plastic DFN, Body 3 x 3 mm, Pitch 0.5 mm; Supplier 1: Digi-Key; Supplier Part Number 1: LTC4413EDD-1#PBF-ND; Supplier 2: Farnell; Supplier Part Number 2: 2295298; Supplier 3: Newark; Supplier Part Number 3: 56M9525; RoHS: TRUE; Mounting Technology: Surface Mount; Code_JEDEC: MO-229; ComponentLink1Description: Manufacturer URL; ComponentLink1URL: http://www.linear.com/; ComponentLink2Description: Datasheet; ComponentLink2URL: http://cds.linear.com/docs/en/datasheet/441312fd.pdf; ComponentLink3Description: Package Specification; ComponentLink3URL: http://cds.linear.com/docs/en/packaging/DFN_10_05-08-1699.pdf
footprint LT-DD-10_V (SON, 10-Leads, Body 3x3mm, Pitch 0.5mm, Thermal Pad 2.38x1.65mm)
pins: 1 INA (power), 2 ENBA (in), 3 GND (power), 4 ENBB (in), 5 INB (power), 6 OUTB (power), 7 NC "No Connection.", 8 NC "No Connection.", 9 STAT (oc), 10 OUTA (power), 11 EP (power)

## LTC4413EDD-1#TRPBF
designator U?
Dual 2.6 A, Fast Ideal Diode, 2.6 to 5.5 V Vin, 10-pin SON (DD-10), -40 to 85 degC, Pb-Free, Tape and Reel; Manufacturer: Linear Technology; PartNumber: LTC4413EDD-1#TRPBF; Ideal Diode: Dual, Internal, P-Channel; DatasheetVersion: Rev. D; PackageVersion: Rev. C, 06/2010; PackageReference: DD-10; PackageDescription: 10-Pin Plastic DFN, Body 3 x 3 mm, Pitch 0.5 mm; Supplier 1: Digi-Key; Supplier Part Number 1: LTC4413EDD-1#TRPBF-ND; Supplier 2: Newark; Supplier Part Number 2: 56M9526; Packing: Tape and Reel; RoHS: TRUE; Mounting Technology: Surface Mount; Code_JEDEC: MO-229; ComponentLink1Description: Manufacturer URL; ComponentLink1URL: http://www.linear.com/; ComponentLink2Description: Datasheet; ComponentLink2URL: http://cds.linear.com/docs/en/datasheet/441312fd.pdf; ComponentLink3Description: Package Specification; ComponentLink3URL: http://cds.linear.com/docs/en/packaging/DFN_10_05-08-1699.pdf
footprint LT-DD-10_V (SON, 10-Leads, Body 3x3mm, Pitch 0.5mm, Thermal Pad 2.38x1.65mm)
pins: 1 INA (power), 2 ENBA (in), 3 GND (power), 4 ENBB (in), 5 INB (power), 6 OUTB (power), 7 NC "No Connection.", 8 NC "No Connection.", 9 STAT (oc), 10 OUTA (power), 11 EP (power)

## LTC4413EDD-2#PBF
designator U?
Dual 2.6 A, Fast Ideal Diode, Overvoltage Protection Sensor with Drive Output for An External P-Channel MOSFET, 2.6 to 5.5 V Vin, 10-pin SON (DD-10), -40 to 85 degC, Pb-Free; Manufacturer: Linear Technology; PartNumber: LTC4413EDD-2#PBF; Ideal Diode: Dual, Internal, P-Channel; DatasheetVersion: Rev. D; PackageVersion: Rev. C, 06/2010; PackageReference: DD-10; PackageDescription: 10-Pin Plastic DFN, Body 3 x 3 mm, Pitch 0.5 mm; Supplier 1: Digi-Key; Supplier Part Number 1: LTC4413EDD-2#PBF-ND; Supplier 2: Newark; Supplier Part Number 2: 56M9527; RoHS: TRUE; Mounting Technology: Surface Mount; Code_JEDEC: MO-229; ComponentLink1Description: Manufacturer URL; ComponentLink1URL: http://www.linear.com/; ComponentLink2Description: Datasheet; ComponentLink2URL: http://cds.linear.com/docs/en/datasheet/441312fd.pdf; ComponentLink3Description: Package Specification; ComponentLink3URL: http://cds.linear.com/docs/en/packaging/DFN_10_05-08-1699.pdf
footprint LT-DD-10_V (SON, 10-Leads, Body 3x3mm, Pitch 0.5mm, Thermal Pad 2.38x1.65mm)
pins: 1 INA (power) "Primary Ideal Diode Anode and Positive Power Supply for LTC4413-1/LTC4413-2. Bypass INA with a ceramic capacitor of at least 1uF. (Series 1ohm snub resistors and higher valued capacitances are recommended when large (See Datasheet)", 2 ENBA (in) "Enable Low for Diode A. Pull this pin high to shut down this power path. Tie to GND to enable. Refer to Table 1 for mode control functionality. This pin can be left floating, a weak (3.5uA) pull-down internal to (See Datasheet)", 3 GND (power) "Power Ground for the IC.", 4 ENBB (in) "Enable Low for Diode B. Pull this pin high to shut down this power path. Tie to GND to enable. Refer to Table 1 for mode control functionality. This pin can be left floating, a weak (3.5uA) pull-down internal to (See Datasheet)", 5 INB (power) "Secondary Ideal Diode Anode and Positive Power Supply for LTC4413-1/LTC4413-2. Bypass INB with a ceramic capacitor of at least 1uF. (Series 1ohm snub resistors and higher valued capacitances are recommended when large (See Datasheet)", 6 OUTB (power) "Secondary Ideal Diode Cathode and Output of the LTC4413-1/LTC4413-2. Bypass OUTB with a high (1mohm min) ESR ceramic capacitor of at least 4.7uF. This pin must be left floating when not in use. Limit slew rate on this pin to (See Datasheet)", 7 OVP (out) "Drive Output for an External OVP Switch PMOS Transistor (To Inhibit Overvoltage Wall Adapter Voltages from Damaging Device.) During overvoltage conditions, this output will remain high so long as an overvoltage condition (See Datasheet)", 8 OVI (in) "Sense Input for Overvoltage Protection Block. This pin can be left floating or grounded when not used.", 9 STAT (oc) "Status Condition Indicator. Weak (11uA) pull-down current output. When terminated, high indicates diode conducting. Refer to Table 2 for the operation of this pin. This pin can also be left floating or grounded.", 10 OUTA (power) "Primary Ideal Diode Cathode and Output of the LTC4413-1/LTC4413-2. Bypass OUTA with a high (1mohm min) ESR ceramic capacitor of at least 4.7uF. This pin must be left floating when not in use. Limit slew rate on this pin to (See Datasheet)", 11 EP (power) "Signal Ground. This pin must be soldered to PCB ground to provide both electrical contact to ground and good thermal contact to PCB."